# Altium schematic symbol library 2226051_이강민_Schlib1.SchLib: 4 symbols
Pins are listed as number, name and electrical type; pins without a type are passive.

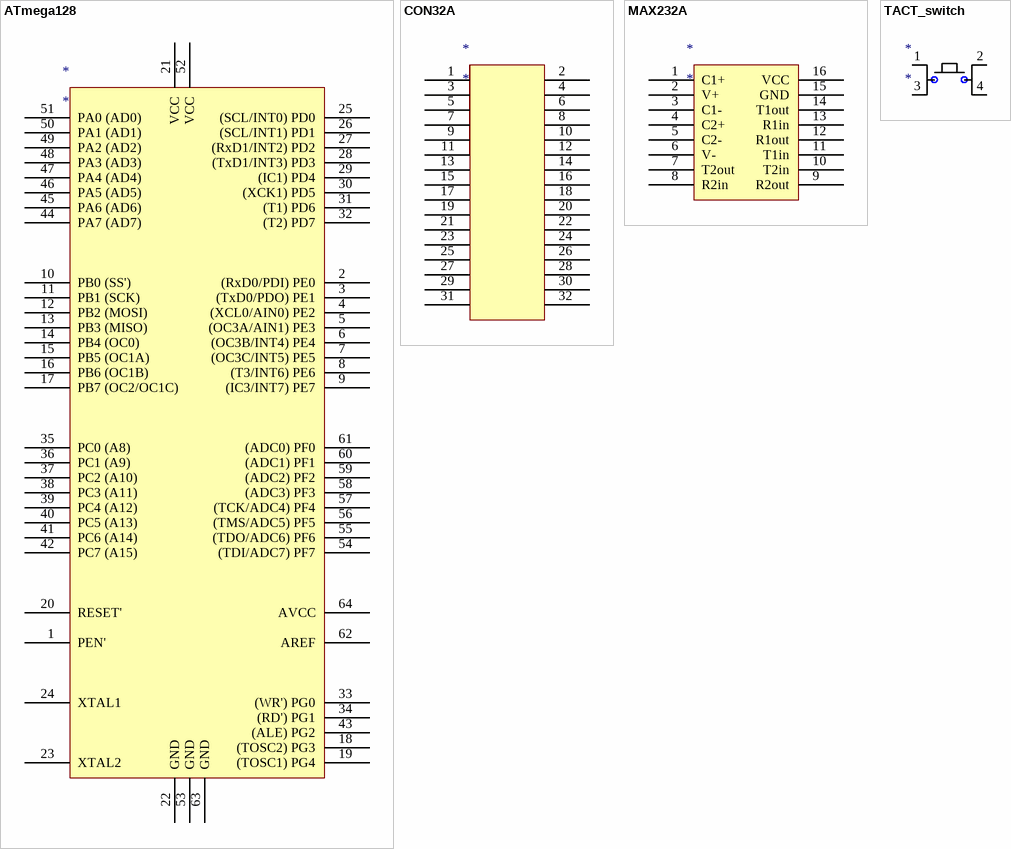
[diagram p0: symbols ATmega128 to TACT_switch]

## ATmega128
designator *
footprint ATmega128_1414 (TQFP, 64-Leads, Body 14.00x14.00mm, Pitch 0.80mm, IPC Medium Density)
pins: 1 PEN', 2 (RxD0/PDI) PE0, 3 (TxD0/PDO) PE1, 4 (XCL0/AIN0) PE2, 5 (OC3A/AIN1) PE3, 6 (OC3B/INT4) PE4, 7 (OC3C/INT5) PE5, 8 (T3/INT6) PE6, 9 (IC3/INT7) PE7, 10 PB0 (SS'), 11 PB1 (SCK), 12 PB2 (MOSI), 13 PB3 (MISO), 14 PB4 (OC0), 15 PB5 (OC1A), 16 PB6 (OC1B), 17 PB7 (OC2/OC1C), 18 (TOSC2) PG3, 19 (TOSC1) PG4, 20 RESET', 21 VCC, 22 GND, 23 XTAL2, 24 XTAL1, 25 (SCL/INT0) PD0, 26 (SCL/INT1) PD1, 27 (RxD1/INT2) PD2, 28 (TxD1/INT3) PD3, 29 (IC1) PD4, 30 (XCK1) PD5, 31 (T1) PD6, 32 (T2) PD7, 33 (WR') PG0, 34 (RD') PG1, 35 PC0 (A8), 36 PC1 (A9), 37 PC2 (A10), 38 PC3 (A11), 39 PC4 (A12), 40 PC5 (A13), 41 PC6 (A14), 42 PC7 (A15), 43 (ALE) PG2, 44 PA7 (AD7), 45 PA6 (AD6), 46 PA5 (AD5), 47 PA4 (AD4), 48 PA3 (AD3), 49 PA2 (AD2), 50 PA1 (AD1), 51 PA0 (AD0), 52 VCC, 53 GND, 54 (TDI/ADC7) PF7, 55 (TDO/ADC6) PF6, 56 (TMS/ADC5) PF5, 57 (TCK/ADC4) PF4, 58 (ADC3) PF3, 59 (ADC2) PF2, 60 (ADC1) PF1, 61 (ADC0) PF0, 62 AREF, 63 GND, 64 AVCC

## CON32A
designator *
footprint CON32A (SOIC, 32-Leads, Body 20.73x7.51mm, Pitch 1.27mm, IPC Medium Density)
pins: 1, 2, 3, 4, 5, 6, 7, 8, 9, 10, 11, 12, 13, 14, 15, 16, 17, 18, 19, 20, 21, 22, 23, 24, 25, 26, 27, 28, 29, 30, 31, 32

## MAX232A
designator *
footprint MAX232A (SOIC, 16-Leads, Body 10.30x4.50mm, Pitch 1.27mm, IPC Medium Density)
pins: 1 C1+, 2 V+, 3 C1-, 4 C2+, 5 C2-, 6 V-, 7 T2out, 8 R2in, 9 R2out, 10 T2in, 11 T1in, 12 R1out, 13 R1in, 14 T1out, 15 GND, 16 VCC

## TACT_switch
designator *
footprint IT-1109S
pins: 1, 2, 3, 4